# EAGLE library part HLE-110-02-X-DV (library HLE-110-02-X-DV)
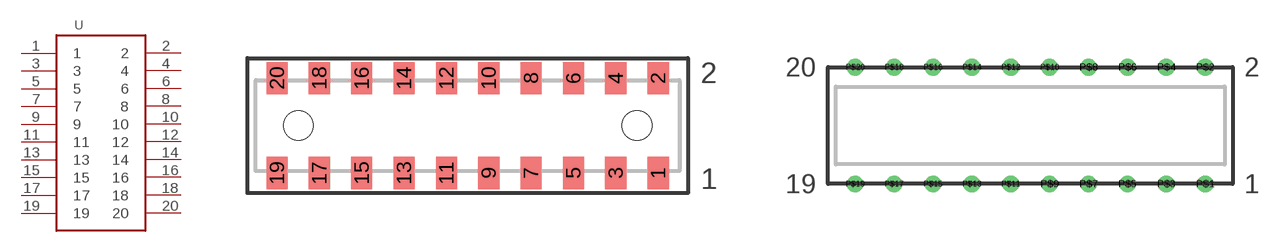
[diagram p0: symbol with the pads of HLE-110-02-X-DV-BE-A; footprints HLE-110-02-X-DV-BE-A, HLE-110-02-X-DV-PE-BE]

Designator prefix -

## HLE-110-02-X-DV  [HLE-110-02-X-DV-BE-A]
1  1
2  2
3  3
4  4
5  5
6  6
7  7
8  8
9  9
10  10
11  11
12  12
13  13
14  14
15  15
16  16
17  17
18  18
19  19
20  20

## HLE-110-02-X-DVHLE-110-X-DV-PE-BA  [HLE-110-02-X-DV-PE-BE]
P$1  1
P$2  2
P$3  3
P$4  4
P$5  5
P$6  6
P$7  7
P$8  8
P$9  9
P$10  10
P$11  11
P$12  12
P$13  13
P$14  14
P$15  15
P$16  16
P$17  17
P$18  18
P$19  19
P$20  20

## Footprint HLE-110-02-X-DV-BE-A (pad centres in mm)
.100" (2,54mm) Surface Mount, Double Row, Vertical Mount. manufacturer:SAMTEC
smd 1.27 x 1.93: 1 11.43,-2.845; 2 11.43,2.845; 3 8.89,-2.845; 4 8.89,2.845; 5 6.35,-2.845; 6 6.35,2.845; 7 3.81,-2.845; 8 3.81,2.845; 9 1.27,-2.845; 10 1.27,2.845; 11 -1.27,-2.845; 12 -1.27,2.845; 13 -3.81,-2.845; 14 -3.81,2.845; 15 -6.35,-2.845; 16 -6.35,2.845; 17 -8.89,-2.845; 18 -8.89,2.845; 19 -11.43,-2.845; 20 -11.43,2.845
hole 1.778 at -10.16,0
hole 1.778 at 10.16,0

## Footprint HLE-110-02-X-DV-PE-BE (pad centres in mm)
.100" (2,54mm) Surface Mount, Double Row, Vertical Mount. manufacturer:SAMTEC
drill 0.584: P$1 11.43,-3.81; P$2 11.43,3.81; P$3 8.89,-3.81; P$4 8.89,3.81; P$5 6.35,-3.81; P$6 6.35,3.81; P$7 3.81,-3.81; P$8 3.81,3.81; P$9 1.27,-3.81; P$10 1.27,3.81; P$11 -1.27,-3.81; P$12 -1.27,3.81; P$13 -3.81,-3.81; P$14 -3.81,3.81; P$15 -6.35,-3.81; P$16 -6.35,3.81; P$17 -8.89,-3.81; P$18 -8.89,3.81; P$19 -11.43,-3.81; P$20 -11.43,3.81